# EAGLE library part 74*595 (library dl)
Portexpander 8-bit-Schieberegister mit parallelen Ausgabe-Flipflops
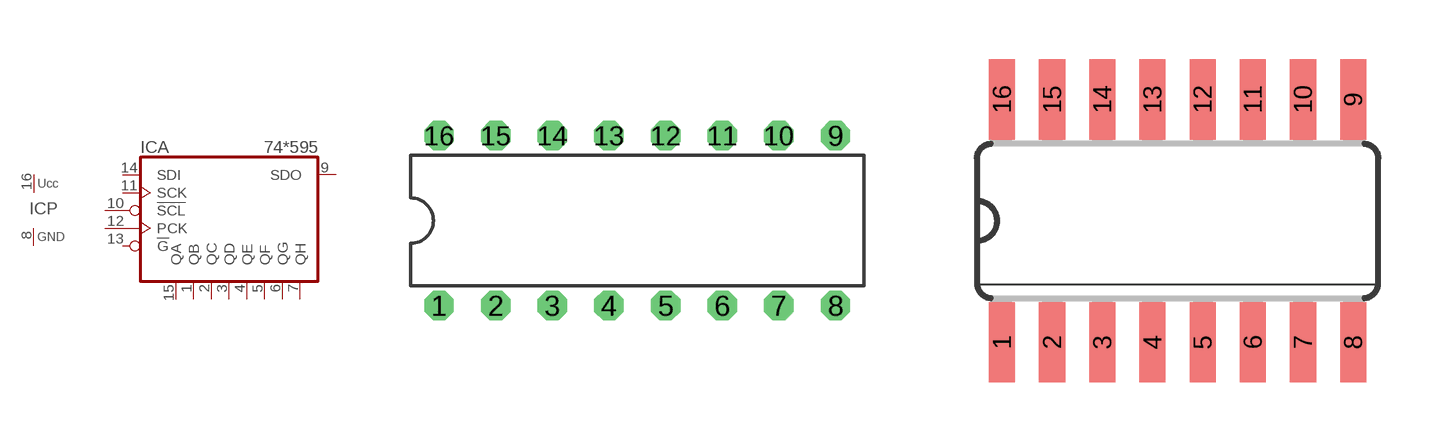
[diagram p0: symbol with the pads of DIL16; footprints DIL16, SO16]

Designator prefix IC; gates A=74595 P=PWRN

## 74HC595N, 74HCT595N, 74LS595N  [DIL16]
1  A:QB  hiz
2  A:QC  hiz
3  A:QD  hiz
4  A:QE  hiz
5  A:QF  hiz
6  A:QG  hiz
7  A:QH  hiz
8  P:GND  pwr
9  A:SDO  hiz
10  A:!SCL  in
11  A:SCK  in
12  A:PCK  in
13  A:!G  in
14  A:SDI  in
15  A:QA  hiz
16  P:5P  pwr

## 74HC595D, 74HCT595D  [SO16]
Pads as for DIL16

## 74HC595R, 74HCT595R, 74LS595R  [QFN16]
Pads as for DIL16

## Footprint DIL16 (pad centres in mm)
Durchsteck-Gehäuse, zweireihig, e=2,54, w=7,62 Kurze Pins mit Pin1
drill 0.813 octagon: 1 -8.89,-3.81; 2 -6.35,-3.81; 3 -3.81,-3.81; 4 -1.27,-3.81; 5 1.27,-3.81; 6 3.81,-3.81; 7 6.35,-3.81; 8 8.89,-3.81; 9 8.89,3.81; 10 6.35,3.81; 11 3.81,3.81; 12 1.27,3.81; 13 -1.27,3.81; 14 -3.81,3.81; 15 -6.35,3.81; 16 -8.89,3.81

## Footprint SO16 (pad centres in mm)
SMD-Gehäuse, zweireihig, e=1,27, w=3,81
smd 0.66 x 2.032: 1 -4.445,-3.073; 2 -3.175,-3.073; 3 -1.905,-3.073; 4 -0.635,-3.073; 5 0.635,-3.073; 6 1.905,-3.073; 7 3.175,-3.073; 8 4.445,-3.073; 9 4.445,3.073; 10 3.175,3.073; 11 1.905,3.073; 12 0.635,3.073; 13 -0.635,3.073; 14 -1.905,3.073; 15 -3.175,3.073; 16 -4.445,3.073

## Footprint QFN16 (pad centres in mm)
Plastic Quad Flatpack 16pin e = 0.5 mm TI-Version, nicht NXP-kompatibel! Nicht quadratisch, sondern rechteckig!
smd 0.8 x 0.3: 1 -2,-0.75; 8 2,-0.75; 9 2,0.75; 16 -2,0.75
smd 0.3 x 0.8: 2 -1.25,-1.75; 3 -0.75,-1.75; 4 -0.25,-1.75; 5 0.25,-1.75; 6 0.75,-1.75; 7 1.25,-1.75; 10 1.25,1.75; 11 0.75,1.75; 12 0.25,1.75; 13 -0.25,1.75; 14 -0.75,1.75; 15 -1.25,1.75
smd 2.5 x 2: PAD 0,0